# Altium footprint library SparkFun-Connectors.PCBLIB: 379 footprints (part 21 of 24)
Each footprint in its own frame and in the unit in brackets; x right, y up, seen from the top. Pads: shape width x height; smd on the part's side, far side on the other; paste and mask are expansions set on the pad; w line width, h text height; cw(c..) or ccw(c..) is an arc to the next point about the centre after c.
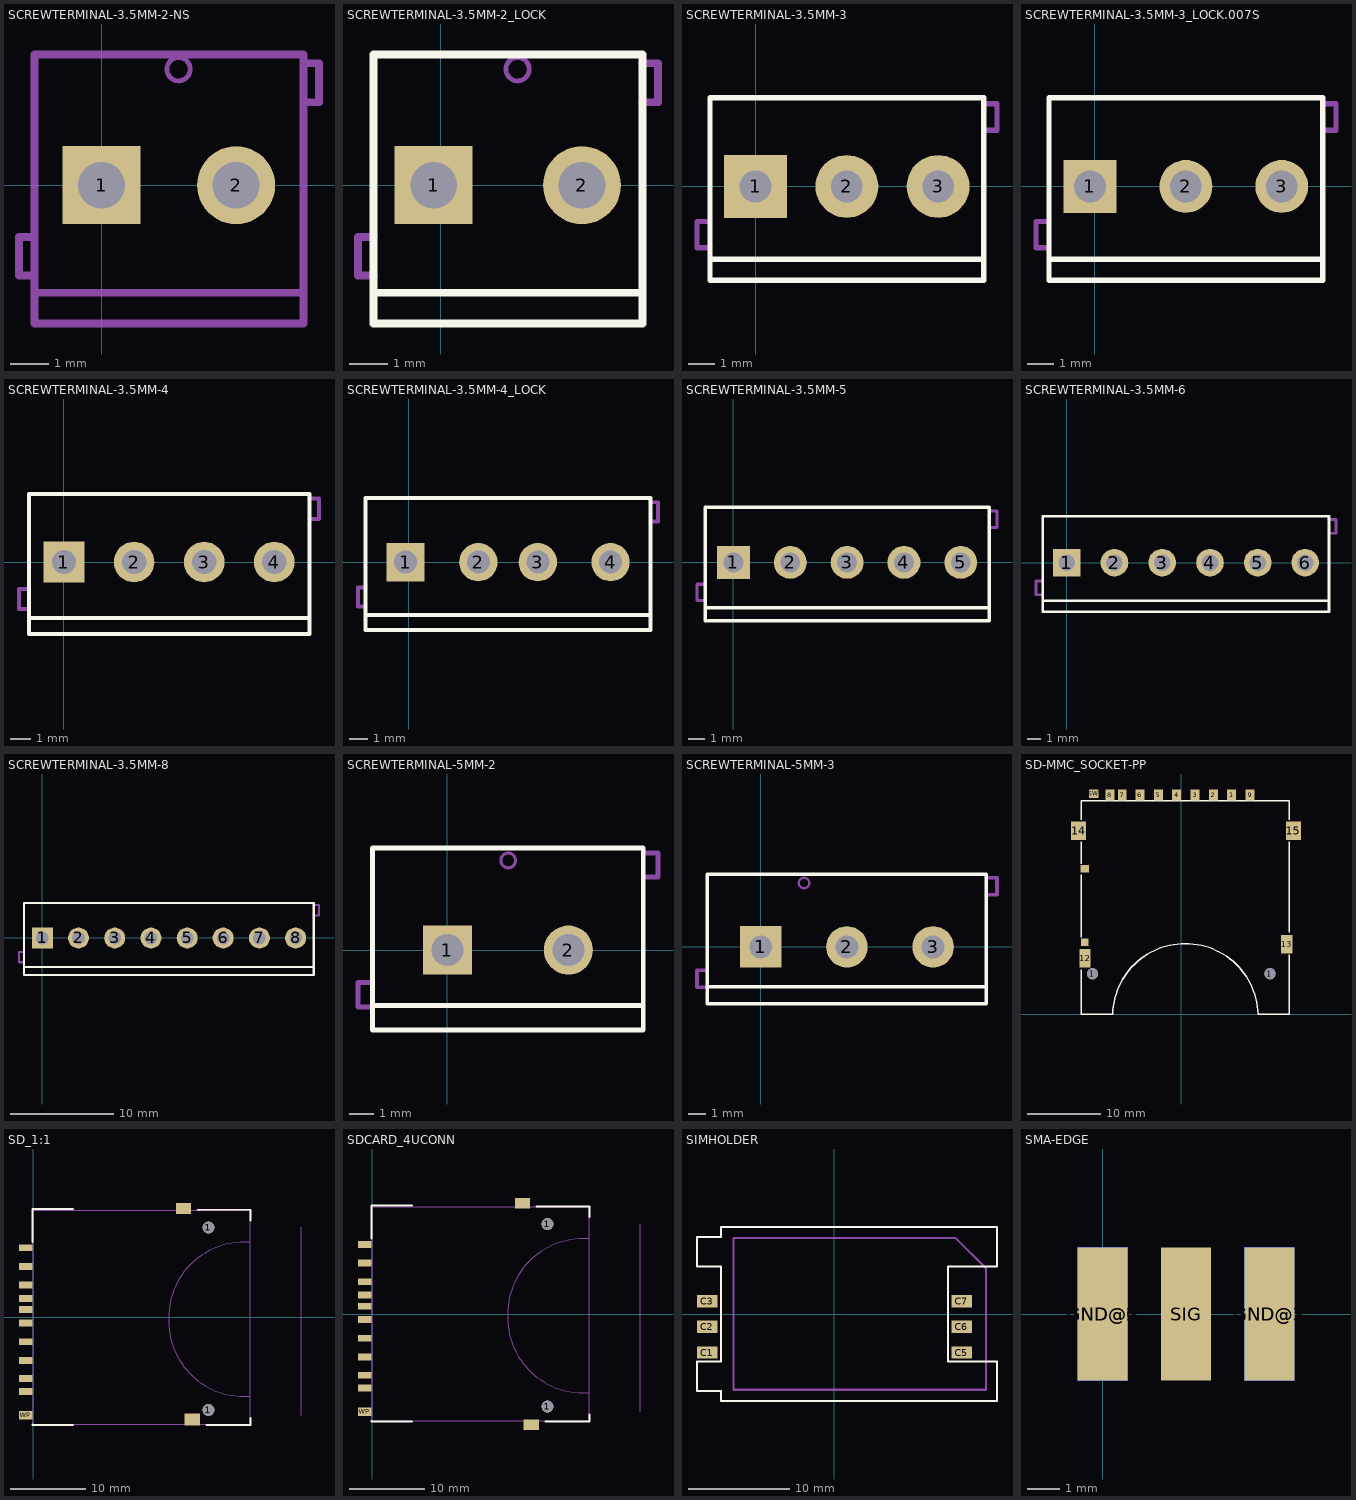
[diagram p20: the footprints below, top view; thin cyan lines are the x and y axes]

## SCREWTERMINAL-3.5MM-2-NS [mil]
pads (2):
  rect 80x80 hole 48: 1(0,0)
  round 80 hole 48: 2(138,0)
Mechanical 2:
  text ">NAME" at -50,100 h24.8
Mechanical 4:
  text ">VALUE" at -50,50 h24.8
Mechanical 16:
  circle w5: c79,119 r12
  lines w8: -68.9,-92.52 -84.65,-92.52 -84.65,-53.15 -68.9,-53.15 ; 207,85 223,85 223,125 207,125 ; -68.9,-110.24 -68.9,-141.73 207,-141.73 207,-110.24 ; -68.9,-110.24 -68.9,134 207,134 207,-110.24 ; -68.9,-110.24 207,-110.24

## SCREWTERMINAL-3.5MM-2_LOCK [mil]
pads (2):
  rect 80x80 hole 48: 1(-7,0)
  round 80 hole 48: 2(145,0)
Top Overlay:
  lines w8: -68.9,-110.24 -68.9,-141.73 207,-141.73 207,-110.24 ; -68.9,-110.24 -68.9,134 207,134 207,-110.24 ; -68.9,-110.24 207,-110.24
Mechanical 2:
  text ">NAME" at -50,100 h24.8
Mechanical 4:
  text ">VALUE" at -50,50 h24.8
Mechanical 16:
  circle w5: c79,119 r12
  circle w1: c0,0 r17
  circle w1: c138,0 r17
  lines w8: -68.9,-92.52 -84.65,-92.52 -84.65,-53.15 -68.9,-53.15 ; 207,85 223,85 223,125 207,125

## SCREWTERMINAL-3.5MM-3 [mil]
pads (3):
  rect 95x95 hole 48: 1(0,0)
  round 95 hole 48: 2(138,0) 3(276,0)
Top Overlay:
  lines w8: -68.9,-110.24 -68.9,-141.73 345,-141.73 345,-110.24 ; -68.9,-110.24 -68.9,134 345,134 345,-110.24 ; -68.9,-110.24 345,-110.24
Mechanical 2:
  text ">NAME" at -50,100 h24.8
Mechanical 4:
  text ">VALUE" at -50,50 h24.8
Mechanical 16:
  lines w8: -68.9,-92.52 -88.58,-92.52 -88.58,-53.15 -68.9,-53.15 ; 345,85 365,85 365,125 345,125

## SCREWTERMINAL-3.5MM-3_LOCK.007S [mil]
pads (3):
  rect 80x80 hole 48: 1(-7,0)
  round 80 hole 48: 2(138,0) 3(283,0)
Top Overlay:
  lines w8: -68.9,-110.24 -68.9,-141.73 345,-141.73 345,-110.24 ; -68.9,-110.24 -68.9,134 345,134 345,-110.24 ; -68.9,-110.24 345,-110.24
Mechanical 2:
  text ">NAME" at -50,100 h24.8
Mechanical 4:
  text ">VALUE" at -50,50 h24.8
Mechanical 16:
  circle w1: c0,0 r17
  circle w1: c138,0 r17
  circle w1: c276,0 r17
  lines w8: -68.9,-92.52 -88.58,-92.52 -88.58,-53.15 -68.9,-53.15 ; 345,85 365,85 365,125 345,125

## SCREWTERMINAL-3.5MM-4 [mil]
pads (4):
  rect 80x80 hole 48: 1(0,0)
  round 80 hole 48: 2(138,0) 3(276,0) 4(414,0)
Top Overlay:
  lines w8: -68.9,-110.24 -68.9,-141.73 483,-141.73 483,-110.24 ; -68.9,-110.24 -68.9,134 483,134 483,-110.24 ; -68.9,-110.24 483,-110.24
Mechanical 2:
  text ">NAME" at -50,100 h24.8
Mechanical 4:
  text ">VALUE" at -50,50 h24.8
Mechanical 16:
  circle w1: c0,0 r17
  circle w1: c138,0 r17
  circle w1: c276,0 r17
  circle w1: c414,0 r17
  lines w8: -68.9,-92.52 -88.58,-92.52 -88.58,-53.15 -68.9,-53.15 ; 483,85 502,85 502,125 483,125

## SCREWTERMINAL-3.5MM-4_LOCK [mil]
pads (4):
  rect 80x80 hole 48: 1(-7,0)
  round 80 hole 48: 2(145,0) 3(269,0) 4(421,0)
Top Overlay:
  lines w8: -90.55,-110.24 -90.55,-141.73 504,-141.73 504,-110.24 ; -90.55,-110.24 -90.55,134 504,134 504,-110.24 ; -90.55,-110.24 504,-110.24
Mechanical 2:
  text ">NAME" at -50,100 h24.8
Mechanical 4:
  text ">VALUE" at -50,50 h24.8
Mechanical 16:
  circle w1: c0,0 r17
  circle w1: c138,0 r17
  circle w1: c276,0 r17
  circle w1: c414,0 r17
  lines w8: -90.55,-92.52 -106.3,-92.52 -106.3,-53.15 -90.55,-53.15 ; 504,85 520,85 520,125 504,125

## SCREWTERMINAL-3.5MM-5 [mil]
pads (5):
  rect 80x80 hole 48: 1(0,0)
  round 80 hole 48: 2(138,0) 3(276,0) 4(414,0) 5(552,0)
Top Overlay:
  lines w8: -68.9,-110.24 -68.9,-141.73 621,-141.73 621,-110.24 ; -68.9,-110.24 -68.9,134 621,134 621,-110.24 ; -68.9,-110.24 621,-110.24
Mechanical 2:
  text ">NAME" at -50,100 h24.8
Mechanical 4:
  text ">VALUE" at -50,50 h24.8
Mechanical 16:
  lines w8: -68.9,-92.52 -88.58,-92.52 -88.58,-53.15 -68.9,-53.15 ; 621,85 640,85 640,125 621,125

## SCREWTERMINAL-3.5MM-6 [mil]
pads (6):
  rect 80x80 hole 48: 1(0,0)
  round 80 hole 48: 2(138,0) 3(276,0) 4(414,0) 5(552,0) 6(689,0)
Top Overlay:
  lines w8: -68.9,-110.24 -68.9,-141.73 758,-141.73 758,-110.24 ; -68.9,-110.24 -68.9,134 758,134 758,-110.24 ; -68.9,-110.24 758,-110.24
Mechanical 2:
  text ">NAME" at -50,100 h24.8
Mechanical 4:
  text ">VALUE" at -50,50 h24.8
Mechanical 16:
  lines w8: -68.9,-92.52 -88.58,-92.52 -88.58,-53.15 -68.9,-53.15 ; 758,85 778,85 778,125 758,125

## SCREWTERMINAL-3.5MM-8 [mil]
pads (8):
  rect 80x80 hole 48: 1(0,0)
  round 80 hole 48: 2(138,0) 3(276,0) 4(414,0) 5(552,0) 6(689,0) 7(827,0) 8(965,0)
Top Overlay:
  lines w8: -68.9,-110.24 -68.9,-141.73 1034,-141.73 1034,-110.24 ; -68.9,-110.24 -68.9,134 1034,134 1034,-110.24 ; -68.9,-110.24 1034,-110.24
Mechanical 2:
  text ">NAME" at -50,100 h24.8
Mechanical 4:
  text ">VALUE" at -50,50 h24.8
Mechanical 16:
  lines w8: -68.9,-92.52 -88.58,-92.52 -88.58,-53.15 -68.9,-53.15 ; 1034,85 1054,85 1054,125 1034,125

## SCREWTERMINAL-5MM-2 [mil]
pads (2):
  rect 80x80 hole 52: 1(0,0)
  round 80 hole 52: 2(197,0)
Top Overlay:
  lines w8: -122.05,-90.55 -122.05,-129.92 319,-129.92 319,-90.55 ; -122.05,-90.55 -122.05,166 319,166 319,-90.55 ; -122.05,-90.55 319,-90.55
Mechanical 2:
  text ">NAME" at -50,100 h24.8
Mechanical 4:
  text ">VALUE" at -50,50 h24.8
Mechanical 16:
  circle w5: c99,146 r12
  lines w8: -122.05,-92.52 -145.67,-92.52 -145.67,-53.15 -122.05,-53.15 ; 319,119 343,119 343,158 319,158

## SCREWTERMINAL-5MM-3 [mil]
pads (3):
  rect 95x95 hole 52: 1(0,0)
  round 95 hole 52: 2(197,0) 3(394,0)
Top Overlay:
  lines w8: -122.05,-90.55 -122.05,-129.92 516,-129.92 516,-90.55 ; -122.05,-90.55 -122.05,166 516,166 516,-90.55 ; -122.05,-90.55 516,-90.55
Mechanical 2:
  text ">NAME" at -50,100 h24.8
Mechanical 4:
  text ">VALUE" at -50,50 h24.8
Mechanical 16:
  circle w5: c99,146 r12
  lines w8: -122.05,-92.52 -145.67,-92.52 -145.67,-53.15 -122.05,-53.15 ; 516,119 540,119 540,158 516,158

## SD-MMC_SOCKET-PP [mil]
pads (18):
  round 60 hole 60: 1(-476.38,217) 1(477,217)
  rect 48x60 smd: 1(271,1176) 2(173,1176) 3(75,1176) 4(-24.41,1176) 5(-122.83,1176) 6(-221.26,1176) 7(-316.54,1176) 8(-383,1176) 9(370,1176)
  rect 60x99 smd: 12(-515.75,300) 13(567,375)
  rect 79x99 smd: 14(-551.18,985) 15(603,985)
  rect 46x40 smd: CD(-518.9,780)
  rect 52x44 smd: SW(-470,1183)
  rect 40x42 smd: WP(-518.9,386)
Top Overlay:
  lines w8: -535.43,237 -535.43,0 -367.72,0 cw(c22.64,-11.71) 413,0 581,0 581,320 ; -535.43,414 -535.43,749 ; -535.43,808 -535.43,926 ; -535.43,1044 -535.43,1146 581,1146 581,1044 ; 581,440 581,926
Mechanical 2:
  text ">Name" at -551.18,473 h77.5

## SD_1:1 [mil]
pads (15):
  rect 71x36 smd: 1(-39.37,267) 2(-39.37,169) 3(-39.37,100) 4(-39.37,-28.74) 5(-39.37,-127.17) 6(-39.37,-225.59) 7(-39.37,-320.87) 8(-39.37,-387.8) 9(-39.37,365) CD(-39.37,41)
  round 62 hole 62: 1(918,-485.04) 1(918,471)
  rect 79x56 smd: SH@1(788,571)
  rect 79x61 smd: SH@2(833,-535)
  rect 71x44 smd: WP(-39.37,-511.81)
Top Overlay:
  lines w10: -3.74,-560.55 -3.74,-564.06 207,-564.06 ; -3.74,395 -3.74,568 207,568 ; 861,564 1138,564 1138,508 ; 906,-564.06 1138,-564.06 1138,-525.55
Mechanical 2:
  text ">NAME" at 22,510 h24.8
Mechanical 4:
  text ">VALUE" at 22,460 h24.8
Mechanical 16:
  lines w5: 1402,-511.81 1402,473 ; 1134,-413.39 1134,394 ; 1134,-413.39 1134,-561.02 0,-561.02 0,562 1134,562 1134,394 ; 1134,-413.39 1103,-413.39 cw(c1102.85,-19.54) 709,-19.68 709,0 cw(c1103,0) 1103,394 1134,394
  text "card lock position" at 1375,-366.14 h77.5

## SDCARD_4UCONN [mil]
pads (15):
  rect 71x36 smd: 1(-39.37,267) 2(-39.37,169) 3(-39.37,100) 4(-39.37,-28.74) 5(-39.37,-127.17) 6(-39.37,-225.59) 7(-39.37,-320.87) 8(-39.37,-387.8) 9(-39.37,365) CD(-39.37,41)
  round 62 hole 62: 1(918,-485.04) 1(918,471)
  rect 79x56 smd: SH@1(788,581) SH@2(833,-580.71)
  rect 71x44 smd: WP(-39.37,-511.81)
Top Overlay:
  lines w10: -3.74,-560.55 -3.74,-564.06 207,-564.06 ; -3.74,395 -3.74,568 207,568 ; 861,564 1138,564 1138,508 ; 906,-564.06 1138,-564.06 1138,-525.55
Mechanical 2:
  text ">NAME" at 22,510 h24.8
Mechanical 4:
  text ">VALUE" at 22,460 h24.8
Mechanical 16:
  lines w5: 1402,-511.81 1402,473 ; 1134,-413.39 1134,-314.96 1134,394 ; 1134,-413.39 1134,-561.02 0,-561.02 0,562 1134,562 1134,394 ; 1134,-413.39 1103,-413.39 cw(c1102.85,-19.54) 709,-19.68 709,0 cw(c1103,0) 1103,394 1134,394
  text "card lock position" at 1375,-366.14 h77.5

## SIMHOLDER [mil]
pads (6):
  rect 79x48 smd: C1(-496.46,-150) C2(-496.46,-50) C3(-496.46,50) C5(497,-150) C6(497,-50) C7(497,50)
Top Overlay:
  lines w8: -535.83,-300.2 -535.83,-185.04 -442.91,-185.04 -442.91,186 -535.83,186 -535.83,301 -442.91,301 -442.91,339 634,339 634,186 443,186 443,-185.04 634,-185.04 634,-338.58 -442.91,-338.58 -442.91,-300.2 -535.83,-300.2
Mechanical 2:
  text ">Name" at -157.48,-118.11 h77.5
Mechanical 4:
  text ">Value" at -157.48,-196.85 h77.5
Mechanical 16:
  lines w8: -393.7,-295.28 -393.7,296 473,296 591,178 591,-295.28 -393.7,-295.28

## SMA-EDGE [mil]
pads (5):
  rect 60x160 smd: GND@0(0,0) GND@1(200,0) SIG(100,0)
  rect 60x160 smd far side: GND@2(0,0) GND@3(200,0)